# Altium footprint library Pakage_lib.pcblib: 90 footprints (part 2 of 6)
Each footprint in its own frame and in the unit in brackets; x right, y up, seen from the top. Pads: shape width x height; smd on the part's side, far side on the other; paste and mask are expansions set on the pad; w line width, h text height; cw(c..) or ccw(c..) is an arc to the next point about the centre after c.
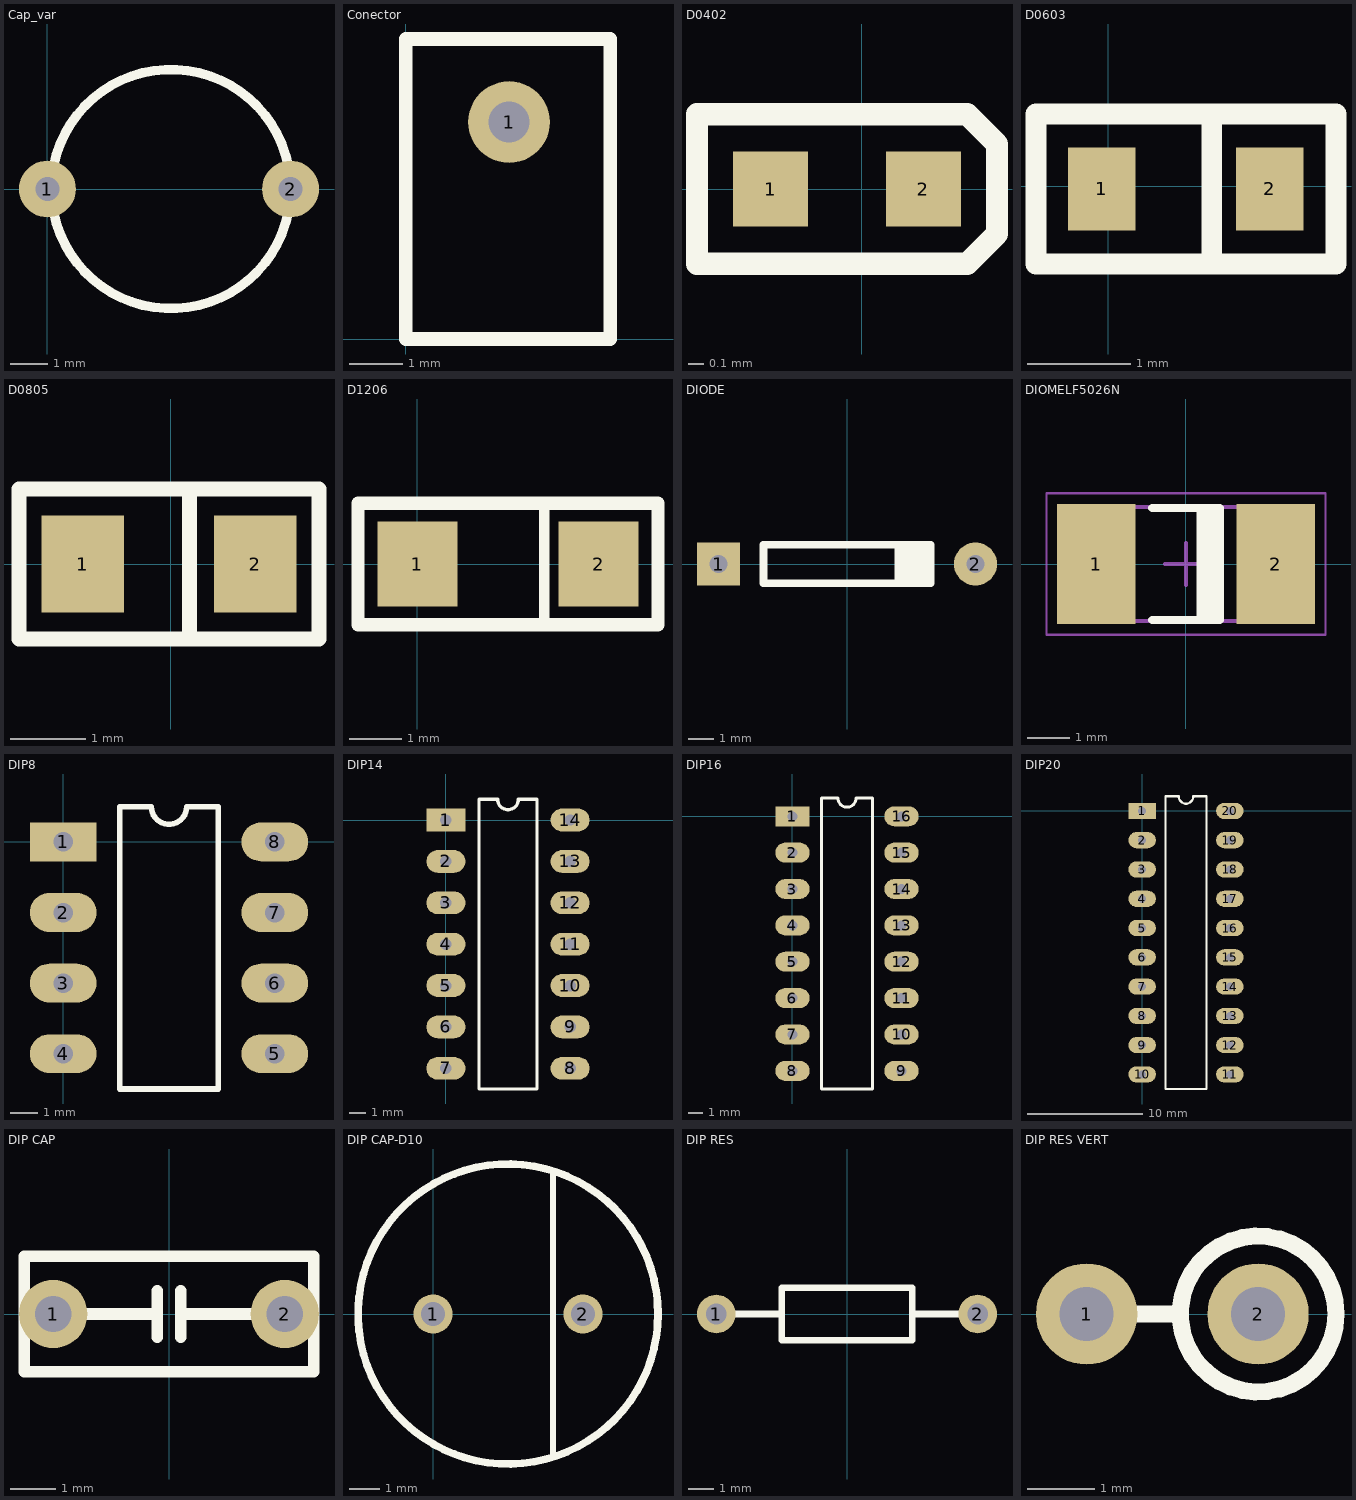
[diagram p1: the footprints below, top view; thin cyan lines are the x and y axes]

## Cap_var [mil]
pads (2):
  round 60 hole 24.8: 1(0,0) 2(255.91,0)
Top Overlay:
  lines w10: 4.09,0 cw(c130,0) 255.91,0 cw(c130,0) 4.09,0

## Conector [mil]
pads (1):
  round 60 hole 30: 1(75.79,159.03)
Top Overlay:
  lines w10: 0,0 150,0 150,220 0,220 0,0

## D0402 [mm]
pads (2):
  rect 0.5x0.5 smd: 1(-0.61,0) 2(0.41,0)
Top Overlay:
  lines w0.15: -1.1,-0.5 -1.1,0.5 0.7,0.5 0.9,0.3 0.9,-0.3 0.7,-0.5 -1.1,-0.5
3D body "User Library-CDBQ0230L.step": height 0.56, standoff 0, extent -0.646,-0.33 0.446,0.33

## D0603 [mm]
pads (2):
  rect 0.65x0.8 smd: 1(-0.065,-0.025) 2(1.56,-0.025)
Top Overlay:
  lines w0.2: 1,-0.725 1,0.7 ; -0.7,-0.75 -0.7,0.7 2.2,0.7 2.2,-0.75 -0.7,-0.75
3D body "User Library-D0603.step": height 0.56, standoff 0, extent -0.125,-0.425 1.575,0.375

## D0805 [mm]
pads (2):
  rect 1.1x1.3 smd: 1(-1.175,0) 2(1.125,0)
Top Overlay:
  lines w0.2: 0.25,-1 0.25,1 ; -2.025,-1 -2.025,1 1.975,1 1.975,-1 -2.025,-1
3D body "User Library-led_0805LED0805_red.STEP": height 1.1, standoff 0, extent -1.01,-0.625 1.01,0.625

## D1206 [mm]
pads (2):
  rect 1.52x1.6 smd: 1(0,0) 2(3.425,0)
Top Overlay:
  lines w0.2: 2.4,-1.125 2.4,1.15
  lines w0.254: -1.125,-1.15 -1.125,1.15 4.55,1.15 4.55,-1.15 -1.125,-1.15
3D body "User Library-RES_3216-1206.STEP": height 0.85, standoff 0, extent 0.025,-0.865 3.375,0.865

## DIODE [mm]
pads (2):
  rect 1.7x1.7 hole 0.7: 1(-5.08,0)
  round 1.7 hole 0.7: 2(5.08,0)
Top Overlay:
  rectangle: 2.032,-0.762 3.302,0.762
  lines w0.3: 2.032,-0.762 2.032,0.762 ; -3.302,-0.762 3.302,-0.762 3.302,0.762 -3.302,0.762 -3.302,-0.762

## DIOMELF5026N [mm] "MELF Diode, 2-Leads, Body 5,05x2,55mm, IPC Medium Density"
height 2.7
pads (2):
  rect 1.85x2.85 smd: 1(-2.125,0) 2(2.125,0)
Top Overlay:
  rectangle: 0.25,-1.325 0.8,1.325
  lines w0.2: -0.8,-1.325 0.8,-1.325 0.8,1.325 -0.8,1.325
Mechanical 13:
  lines w0.1: -2.65,-1.35 2.65,-1.35 2.65,1.35 -2.65,1.35 -2.65,-1.35
Mechanical 15:
  lines w0.05: -3.3,-1.675 3.3,-1.675 3.3,1.675 -3.3,1.675 -3.3,-1.675
  lines w0.1: -0.5,0 0.5,0 ; 0,-0.5 0,0.5
3D body: height 2.7, standoff 0, extent 1.55,-1.35 2.65,1.349
3D body: height 2.69, standoff 0.05, extent -1.55,-1.32 1.55,1.32
3D body: height 2.69, standoff 0.04, extent 0.35,-1.321 0.95,1.32
3D body: height 2.7, standoff 0, extent -2.65,-1.35 -1.55,1.349

## DIP8 [mm]
pads (8):
  rect 2.4x1.4 hole 0.7: 1(0,0)
  oval 2.4x1.4 hole 0.7: 2(0,-2.54) 3(0,-5.08) 4(0,-7.62) 5(7.62,-7.62) 6(7.62,-5.08) 7(7.62,-2.54) 8(7.62,0)
Top Overlay:
  lines w0.2: 2.035,-8.89 2.035,1.27 3.175,1.27 ccw(c3.81,1.27) 4.445,1.27 5.585,1.27 5.585,-8.89 2.035,-8.89

## DIP14 [mm]
pads (14):
  rect 2.4x1.4 hole 0.7: 1(0,0)
  oval 2.4x1.4 hole 0.7: 2(0,-2.54) 3(0,-5.08) 4(0,-7.62) 5(0,-10.16) 6(0,-12.7) 7(0,-15.24) 8(7.62,-15.24) 9(7.62,-12.7) 10(7.62,-10.16) 11(7.62,-7.62) 12(7.62,-5.08) 13(7.62,-2.54) 14(7.62,0)
Top Overlay:
  lines w0.2: 2.035,-16.51 2.035,1.27 3.175,1.27 ccw(c3.81,1.27) 4.445,1.27 5.585,1.27 5.585,-16.51 2.035,-16.51

## DIP16 [mm]
pads (16):
  rect 2.4x1.4 hole 0.7: 1(0,0)
  oval 2.4x1.4 hole 0.7: 2(0,-2.54) 3(0,-5.08) 4(0,-7.62) 5(0,-10.16) 6(0,-12.7) 7(0,-15.24) 8(0,-17.78) 9(7.62,-17.78) 10(7.62,-15.24) 11(7.62,-12.7) 12(7.62,-10.16) 13(7.62,-7.62) 14(7.62,-5.08) 15(7.62,-2.54) 16(7.62,0)
Top Overlay:
  lines w0.2: 2.035,-19.05 5.585,-19.05 5.585,1.27 4.445,1.27 cw(c3.81,1.27) 3.175,1.27 2.035,1.27 2.035,-19.05

## DIP20 [mm]
pads (20):
  rect 2.4x1.4 hole 0.7: 1(0,0)
  oval 2.4x1.4 hole 0.7: 2(0,-2.54) 3(0,-5.08) 4(0,-7.62) 5(0,-10.16) 6(0,-12.7) 7(0,-15.24) 8(0,-17.78) 9(0,-20.32) 10(0,-22.86) 11(7.62,-22.86) 12(7.62,-20.32) 13(7.62,-17.78) 14(7.62,-15.24) 15(7.62,-12.7) 16(7.62,-10.16) 17(7.62,-7.62) 18(7.62,-5.08) 19(7.62,-2.54) 20(7.62,0)
Top Overlay:
  lines w0.2: 2.035,-24.13 2.035,1.27 3.175,1.27 ccw(c3.81,1.27) 4.445,1.27 5.585,1.27 5.585,-24.13 2.035,-24.13

## DIP CAP [mm]
pads (2):
  round 1.5 hole 0.8: 1(-2.54,0) 2(2.54,0)
Top Overlay:
  lines w0.254: -2.54,0 -0.254,0 ; -0.254,-0.508 -0.254,0.508 ; 0.254,-0.508 0.254,0.508 ; 0.254,0 2.54,0 ; -3.175,-1.27 -3.175,1.27 3.175,1.27 3.175,-1.27 -3.175,-1.27

## DIP CAP-D10 [mm]
pads (2):
  round 1.3 hole 0.8: 1(0,0) 2(5,0)
Top Overlay:
  circle w0.254: c2.5,0 r5.004
  lines w0.2: 4,-4.7 4,4.7

## DIP RES [mm]
pads (2):
  round 1.5 hole 0.8: 1(-5.08,0) 2(5.08,0)
Top Overlay:
  lines w0.254: -5.08,0 -2.54,0 ; 2.54,0 5.08,0 ; -2.54,-1.016 -2.54,1.016 2.54,1.016 2.54,-1.016 -2.54,-1.016

## DIP RES VERT [mm]
pads (2):
  round 1.5 hole 0.8: 1(-5.08,0) 2(-2.54,0)
Top Overlay:
  circle w0.254: c-2.54,0 r1.154
  lines w0.254: -5.08,0 -3.75,0